# Altium integrated library Infineon_Power_Gate_Driver.IntLib: 27 symbols (part 2 of 2)
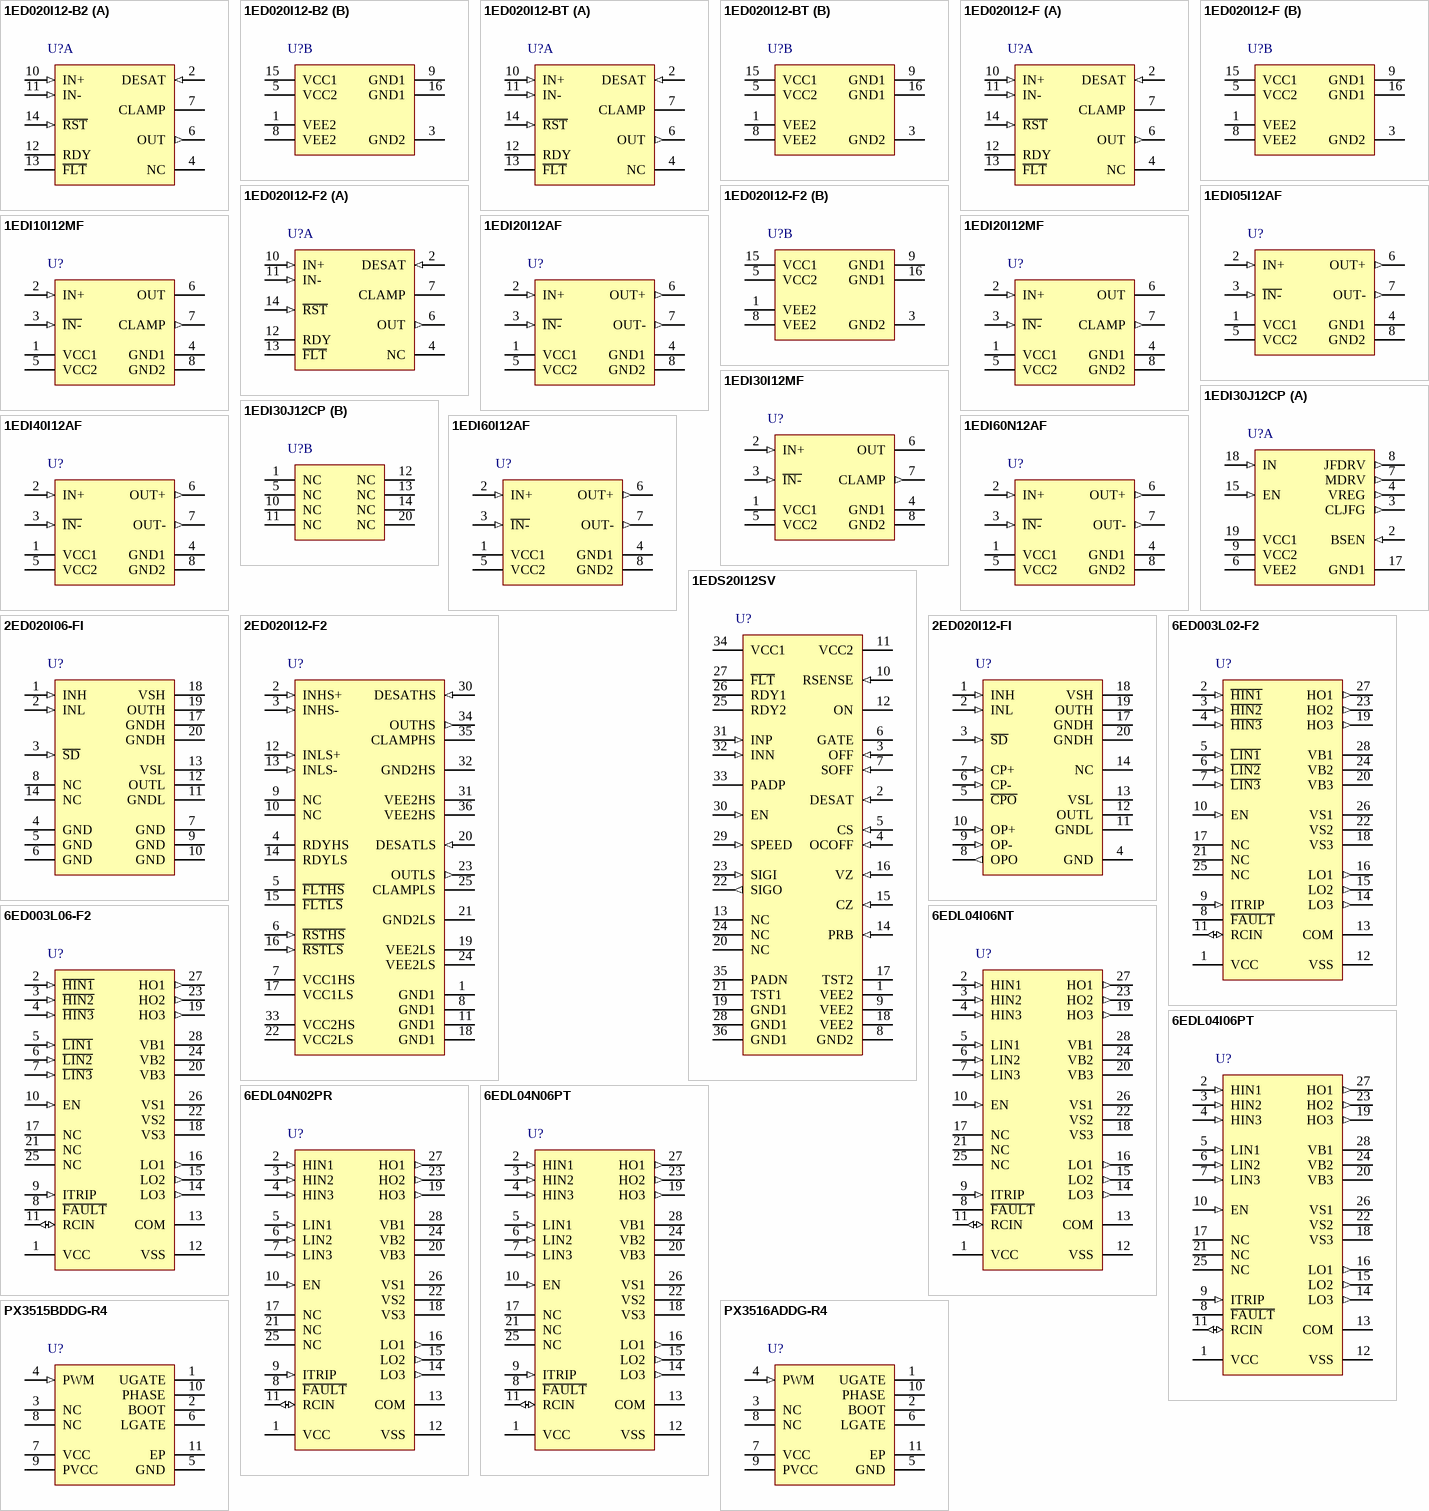
[diagram p2: symbols 1ED020I12-B2 to PX3516ADDG-R4]

## 6EDL04N06PT
designator U?
3 Phase 600 V Gate Drive IC, PG-DSO-28-1, Reel, Green; Manufacturer: Infineon; PartNumber: 6EDL04N06PT; Fault Reporting: ITRIP; Green: TRUE; Shutdown/Enable: EN; Tj (max): 125 degC; Topology: 3-Phase; Turn On Propagation Delay (max): 800 ns; UVLO_ON_max: 9.8 V; DatasheetVersion: Rev. 2.2; PackageVersion: V13, 05/2011; PackageReference: PG-DSO-28-1; PackageDescription: 28-Pin Plastic (Green) Dual Small Outline Package, 17.9 x 7.5 mm Body, 1.27 mm Pitch; Halogen-free: TRUE; Mounting Technology: Surface Mount; ComponentLink1Description: Manufacturer URL; ComponentLink1URL: http://www.infineon.com/; ComponentLink2Description: Datasheet; ComponentLink2URL: http://www.infineon.com/dgdl/6ED2-DB-Rev2_2.pdf?folderId=db3a30431a5c32f2011a77fa27a86cb5&fileId=db3a304336797ff901367c18c18445af; ComponentLink3Description: Package Specification; ComponentLink3URL: http://www.infineon.com/dgdl/TLE7242-2G-Data-Sheet_11.pdf?folderId=db3a30431400ef68011421b54e2e0564&fileId=db3a30431ed1d7b2011eee8d146f5480&sId=db3a30443d67b5ca013d800a7dd52c12
footprint INF-PG-DSO-28-1_N (SOP, 28-Leads, Body 17.9x7.5mm, Pitch 1.27mm, IPC Medium Density)
footprint INF-PG-DSO-28-1_L (SOP, 28-Leads, Body 17.9x7.5mm, Pitch 1.27mm, IPC High Density)
footprint INF-PG-DSO-28-1_M (SOP, 28-Leads, Body 17.9x7.5mm, Pitch 1.27mm, IPC Low Density)
pins: 1 VCC (power) "Low side power supply", 2 HIN1 (in) "High side logic input", 3 HIN2 (in) "High side logic input", 4 HIN3 (in) "High side logic input", 5 LIN1 (in) "Low side logic input", 6 LIN2 (in) "Low side logic input", 7 LIN3 (in) "Low side logic input", 8 ~{FAULT} (hiz) "Indicates over-current and under-voltage (negative logic, open-drain output)", 9 ITRIP (in) "Analog input for over-current shut down, activates FAULT and RCIN to VSS", 10 EN (in) "Enable I/O functionality (positive logic)", 11 RCIN (io) "External RC-network to define FAULT clear delay after FAULT-Signal (TFLTCLR)", 12 VSS (power) "Logic ground", 13 COM "Low side gate driver reference", 14 LO3 (out) "Low side gate driver output", 15 LO2 (out) "Low side gate driver output", 16 LO1 (out) "Low side gate driver output", 17 NC "Not connected", 18 VS3 (power) "High side negative power supply", 19 HO3 (out) "High side gate driver output", 20 VB3 (power) "High side positive power supply", 21 NC "Not connected", 22 VS2 (power) "High side negative power supply", 23 HO2 (out) "High side gate driver output", 24 VB2 (power) "High side positive power supply", 25 NC "Not connected", 26 VS1 (power) "High side negative power supply", 27 HO1 (out) "High side gate driver output", 28 VB1 (power) "High side positive power supply"

## PX3515BDDG-R4
designator U?
Synchronous Rectified Buck MOSFET Driver IC, 7 to 13.2 V, 1,900 uA Iq, 0 to 85 degC, PG-TDSON-10-2, Reel, Green; Manufacturer: Infineon; PartNumber: PX3515BDDG-R4; fSW (max): 2,000 kHz; fSW (min): 100 kHz; Green: TRUE; ICC (typ): 6 mA; RthJA (max): 40 K/W; tf (typ): 15 us; ton: 20 us; VBOOST (max): 45 V; VCC (max): 13.2 V; VCC (min): 7 V; PackageVersion: Dec-10; PackageReference: PG-TDSON-10-2; PackageDescription: 10-Pin Plastic (Green) Thin Dual Small Outline Non-Leaded Package, 3 x 3 mm Body, 0.5 mm Pitch; Supplier 1: Mouser; Supplier Part Number 1: N/A; Halogen-free: TRUE; Iq (typ): 1,900 uA; Packing: Reel; tr (typ): 20 us; Mounting Technology: Surface Mount; ComponentLink1Description: Manufacturer URL; ComponentLink1URL: http://www.infineon.com/; ComponentLink2Description: Datasheet; ComponentLink2URL: http://www.infineon.com/dgdl/PD-3515-001A+%282%29.pdf?folderId=db3a3043240e85fe0124160b44183655&fileId=db3a304325305e6d01258cbe791e3697; ComponentLink3Description: Package Specification; ComponentLink3URL: http://www.infineon.com/dgdl/PG-TDSON-10-2-Package_Overview.pdf?folderId=db3a30432d081e66012d940bd1c72bc0&fileId=db3a30432d081e66012d94133bd72bd5
footprint INF-PG-TDSON-10-2_V (SON, 10-Leads, Body 3x3mm, Pitch 0.5mm, Thermal Pad 2x1.6mm)
pins: 1 UGATE (power) "Upper gate drive output. Connect to the gate of high-side power N-channel MOSFET", 2 BOOT (power) "Floating bootstrap supply pin for the upper gate drive. Connect the bootstrap capacitor between this pin and the PHASE pin. The bootstrap capacitor provides the charge to turn on the upper MOSFET. See the Internal Bootstrap (See Datasheet)", 3 NC "No connection", 4 PWM (in) "The PWM signal is the control input for the driver and is to be connected to the PWM output of the controller. The PWM signal can enter three distinct states during operation. See the 3-state PWM input section herein for (See Datasheet)", 5 GND (power) "Bias and reference ground. All signals are referenced to this node. It is also the power ground return of the driver.", 6 LGATE (power) "Lower gate drive output. Connect to the gate of the low-side power N-channel MOSFET", 7 VCC (power) "This pin supplies power to the upper gate , Its operating range is +6V to +12V. Place a high quality low ESR ceramic capacitor from this pin to GND.", 8 NC "No connection", 9 PVCC (power) "This pin supplies power to the lower gate , Its operating range is +6.7V to +12V. Place a high quality low ESR ceramic capacitor from this pin to GND.", 10 PHASE (power) "Connect this pin to the source of the upper MOSFET and the drain of the lower MOSFET. This pin provides a return path for the upper gate drive.", 11 EP (power) "Connect pad to the power circuit board power ground plane (GND), use thermal vias"

## PX3516ADDG-R4
designator U?
Synchronous Rectified Buck MOSFET Driver IC, 4.5 to 6.5 V, 410 uA Iq, 0 to 125 degC, PG-TDSON-10-2, Reel, Green; Manufacturer: Infineon; PartNumber: PX3516ADDG-R4; fSW (max): 2,000 kHz; fSW (min): 100 kHz; Green: TRUE; ICC (typ): 2.4 mA; Iq (typ): 410 uA; RthJA (max): 48 K/W; tf (typ): 0.01 us; ton: 25 us; VBOOST (max): 30 V; VCC (max): 6.5 V; VCC (min): 4.5 V; PackageVersion: Dec-10; PackageReference: PG-TDSON-10-2; PackageDescription: 10-Pin Plastic (Green) Thin Dual Small Outline Non-Leaded Package, 3 x 3 mm Body, 0.5 mm Pitch; Supplier 1: Digi-Key; Supplier Part Number 1: PX3516ADDG-R4-ND; Halogen-free: TRUE; Packing: Reel; tr (typ): 0.01 us; Mounting Technology: Surface Mount; ComponentLink1Description: Manufacturer URL; ComponentLink1URL: http://www.infineon.com/; ComponentLink2Description: Datasheet; ComponentLink2URL: http://www.infineon.com/dgdl/PX3516DDG-R4.pdf?folderId=db3a3043240e85fe0124160b44183655&fileId=db3a3043271faefd012771cf7b6f6e56; ComponentLink3Description: Package Specification; ComponentLink3URL: http://www.infineon.com/dgdl/PG-TDSON-10-2-Package_Overview.pdf?folderId=db3a30432d081e66012d940bd1c72bc0&fileId=db3a30432d081e66012d94133bd72bd5
footprint INF-PG-TDSON-10-2_V (SON, 10-Leads, Body 3x3mm, Pitch 0.5mm, Thermal Pad 2x1.6mm)
pins: 1 UGATE (power) "Upper gate drive output. Connect to the gate of high-side power N-channel MOSFET", 2 BOOT (power) "Floating bootstrap supply pin for the upper gate drive. Connect the bootstrap capacitor between this pin and the PHASE pin. The bootstrap capacitor provides the charge to turn on the upper MOSFET. See the Internal Bootstrap (See Datasheet)", 3 NC "No connection", 4 PWM (in) "The PWM signal is the control input for the driver and is to be connected to the PWM output of the controller. The PWM signal can enter three distinct states during operation. See the 3-state PWM input section herein for (See Datasheet)", 5 GND (power) "Bias and reference ground. All signals are referenced to this node. It is also the power ground return of the driver.", 6 LGATE (power) "Lower gate drive output. Connect to the gate of the low-side power N-channel MOSFET", 7 VCC (power) "This pin supplies power to the upper gate , Its operating range is +6V to +12V. Place a high quality low ESR ceramic capacitor from this pin to GND.", 8 NC "No connection", 9 PVCC (power) "This pin supplies power to the lower gate , Its operating range is +6.7V to +12V. Place a high quality low ESR ceramic capacitor from this pin to GND.", 10 PHASE (power) "Connect this pin to the source of the upper MOSFET and the drain of the lower MOSFET. This pin provides a return path for the upper gate drive.", 11 EP (power) "Connect pad to the power circuit board power ground plane (GND), use thermal vias"

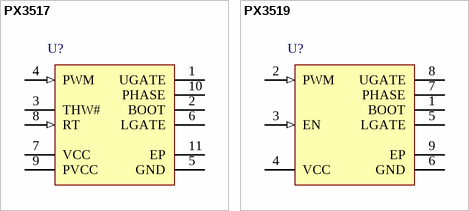
[diagram p1: symbols PX3517 to PX3519]

## PX3517
designator U?
Synchronous Rectified Buck MOSFET Driver IC, 4.5 to 8 V, -25 to 125 degC, PG-TDSON-10, Reel, Green; Manufacturer: Infineon; PartNumber: PX3517; Green: TRUE; ICC (typ): 2 mA; PWM: 1.2-2 V; PWM Inputs: 0.8 V,2.5 V; tf (typ): 0.01 us; ton: 0.05 us; VBOOST (max): 30 V; DatasheetVersion: Rev. 2.0; PackageVersion: Dec-10; PackageReference: PG-TDSON-10-2; PackageDescription: 10-Pin Plastic (Green) Thin Dual Small Outline Non-Leaded Package, 3 x 3 mm Body, 0.5 mm Pitch; Supplier 1: Mouser; Supplier Part Number 1: N/A; Halogen-free: TRUE; Packing: Reel; tr (typ): 0.01 us; Vcc: 4.5 to 8 V; Mounting Technology: Surface Mount; ComponentLink1Description: Manufacturer URL; ComponentLink1URL: http://www.infineon.com/; ComponentLink2Description: Datasheet; ComponentLink2URL: http://www.infineon.com/dgdl/PX3517+Rev.2+00.pdf?folderId=db3a304340155f3d01401a17ebcc2125&fileId=db3a304340155f3d01401a18d7042126; ComponentLink3Description: Package Specification; ComponentLink3URL: http://www.infineon.com/dgdl/PG-TDSON-10-2-Package_Overview.pdf?folderId=db3a30432d081e66012d940bd1c72bc0&fileId=db3a30432d081e66012d94133bd72bd5
footprint INF-PG-TDSON-10-2_V (SON, 10-Leads, Body 3x3mm, Pitch 0.5mm, Thermal Pad 2x1.6mm)
pins: 1 UGATE (power) "Upper gate drive output", 2 BOOT (power) "Floating bootstrap supply pin for upper gate drive", 3 THW# (oc) "Open drain output", 4 PWM (in) "PWM drive logic input", 5 GND (power) "GND connection", 6 LGATE (power) "Lower gate drive output", 7 VCC (power) "Supply for IC housekeeping and logic", 8 RT (in) "Thermal warning threshold selection pin", 9 PVCC (power) "Supply for IC driver section", 10 PHASE (power) "Return path for high side MOSFET driver", 11 EP (power) "Bias and reference ground"

## PX3519
designator U?
Synchronous Rectified Buck MOSFET Driver IC, 4.5 to 8 V, -25 to 125 degC, PG-VDSON-8, Reel, Green; Manufacturer: Infineon; PartNumber: PX3519; Green: TRUE; ICC (typ): 2 mA; PWM: 1.2-2 V; PWM Inputs: 0.8 V,2.5 V; tf (typ): 0.01 us; ton: 0.05 us; VBOOST (max): 30 V; DatasheetVersion: Rev. 2.0; PackageVersion: Rev. 01, 05/2013; PackageReference: PG-VDSON-8; PackageDescription: 8-Pin Plastic (Green) Very Thin Dual Small Outline Non Leaded Package, 3 x 3 mm Body, 0.5 mm Pitch; Supplier 1: Mouser; Supplier Part Number 1: N/A; Halogen-free: TRUE; Packing: Reel; tr (typ): 0.01 us; Vcc: 4.5 to 8 V; Mounting Technology: Surface Mount; ComponentLink1Description: Manufacturer URL; ComponentLink1URL: http://www.infineon.com/; ComponentLink2Description: Datasheet; ComponentLink2URL: http://www.infineon.com/dgdl/PX3519+Rev.2+00.pdf?folderId=db3a30431a5c32f2011a77f9c03e6cb4&fileId=db3a304340155f3d01401a13030e211a; ComponentLink3Description: Package Specification; ComponentLink3URL: http://www.infineon.com/dgdl/PX3519+Rev.2+00.pdf?folderId=db3a30431a5c32f2011a77f9c03e6cb4&fileId=db3a304340155f3d01401a13030e211a
footprint INF-PG-VDSON-8_V (SON, 8-Leads, Body 3x3mm, Pitch 0.5mm, Thermal Pad 2.5x1.6mm)
pins: 1 BOOT (power) "Floating bootstrap supply pin for the upper gate drive.", 2 PWM (in) "PWM drive logic input", 3 EN (in) "Enable signal", 4 VCC (power) "Supply for housekeeping/logic and driver sections power to the IC.", 5 LGATE (power) "Low side gate signal", 6 GND (power) "GND connection.", 7 PHASE (power) "Return path for the upper gate driver.", 8 UGATE (power) "Upper gate drive output.", 9 EP (power) "Bias and reference ground."